# EAGLE library part BMP280 (library FPE)
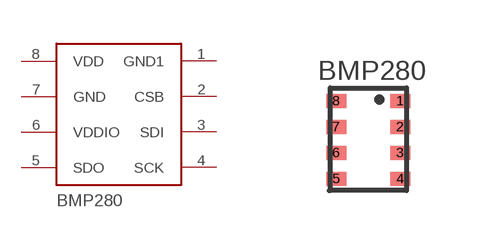
[diagram p1: symbol with the pads of BMP280; footprint BMP280]

Designator prefix -

## BMP280  [BMP280]
1  GND1
2  CSB
3  SDI
4  SCK
5  SDO
6  VDDIO
7  GND
8  VDD

## Footprint BMP280 (pad centres in mm)
smd 0.5 x 0.35: 1 1.85,2.125; 2 1.85,1.475; 3 1.85,0.825; 4 1.85,0.175; 5 0.25,0.175; 6 0.25,0.825; 7 0.25,1.475; 8 0.25,2.125